# Altium schematic symbol library Driver_Motor.SchLib: 95 symbols (part 2 of 2)
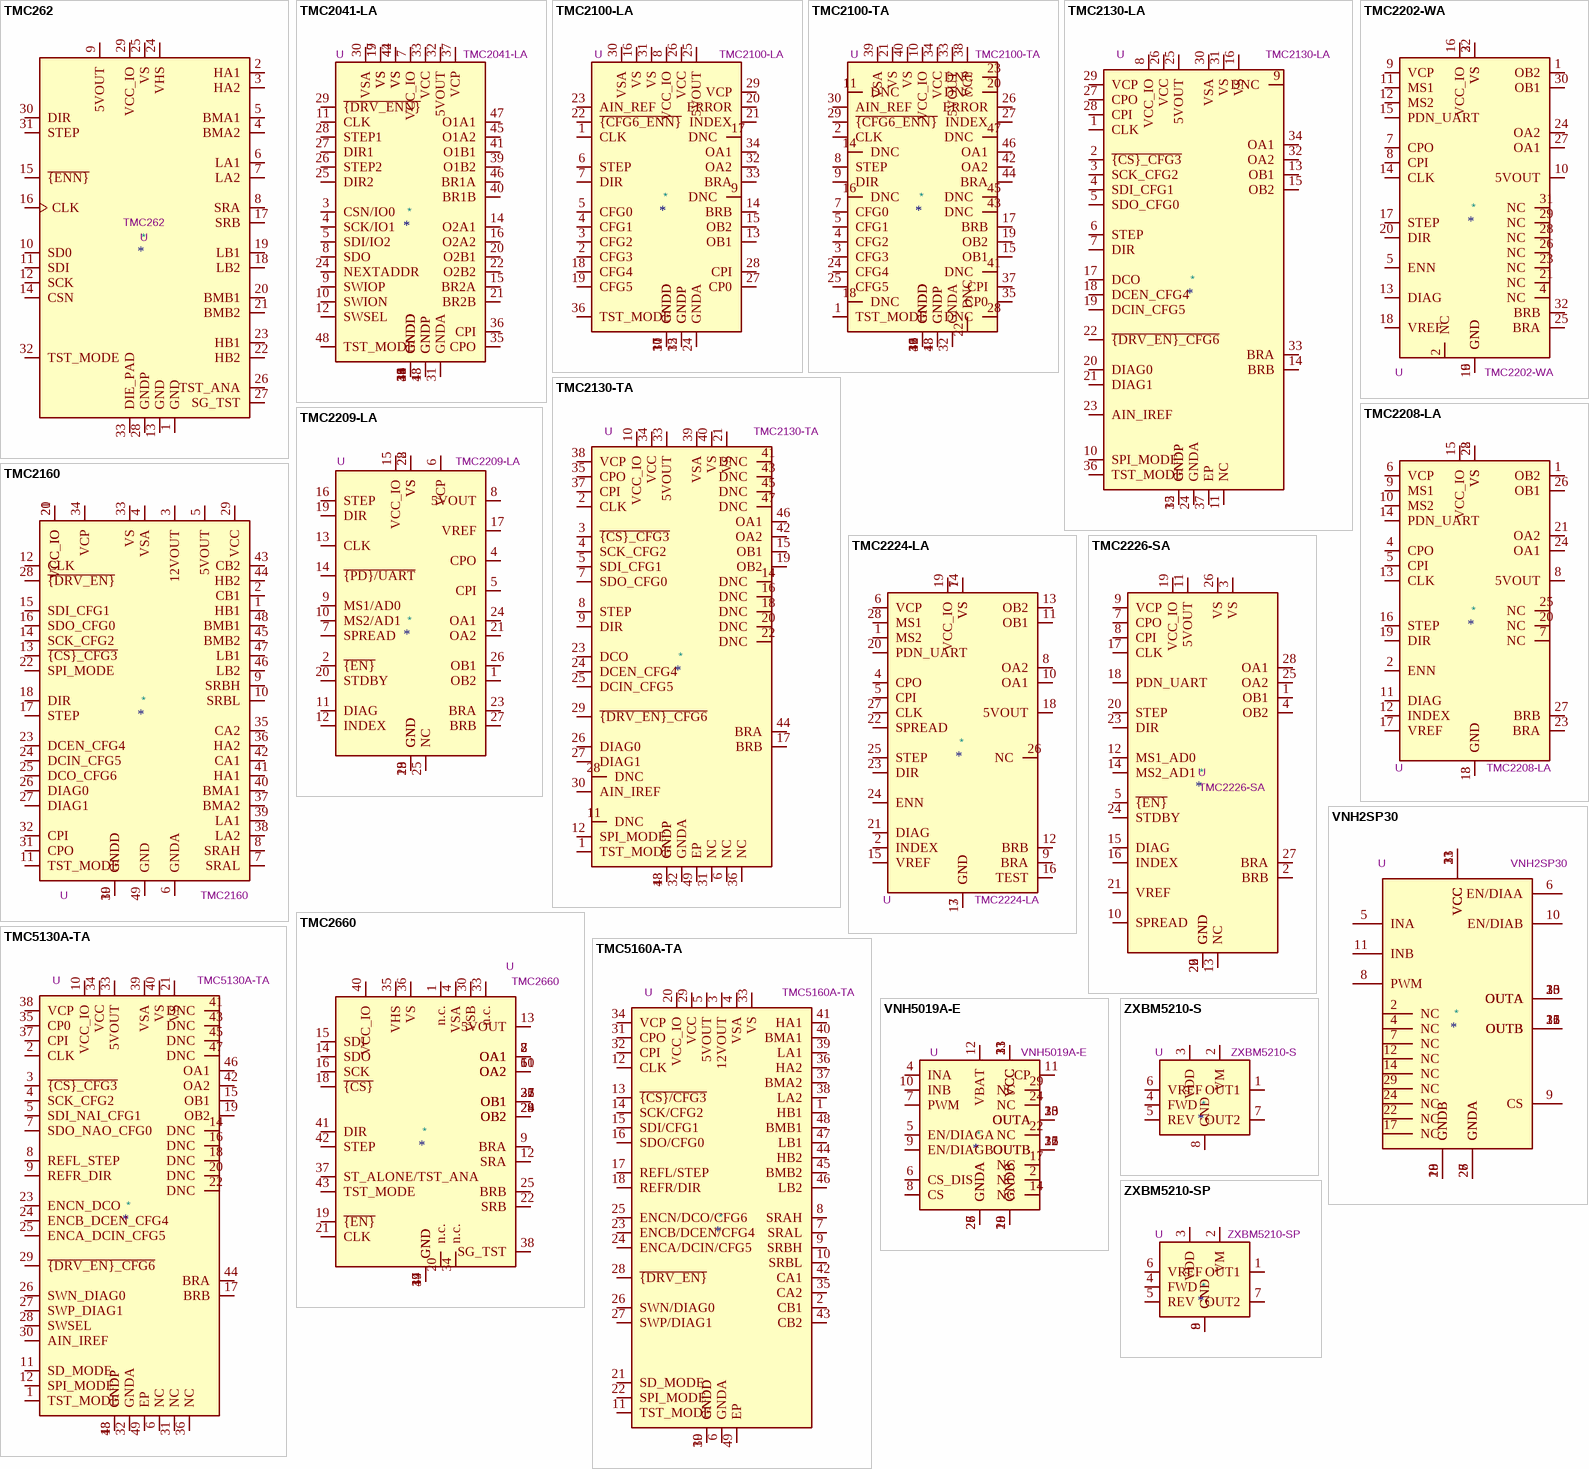
[diagram p4: symbols TMC262 to ZXBM5210-SP]

## TMC2130-LA
designator *  value TMC2130-LA  Reference: U
Driver for two-phase bipolar stepper motor, 2.0A, SPI, 4.75-46V, QFN-36; ki_keywords: stepper motor driver; ki_fp_filters: QFN*1EP*5x6mm*P0.5mm*; Footprint: Package_DFN_QFN:QFN-36-1EP_5x6mm_P0.5mm_EP3.6x4.1mm; Datasheet: http://www.trinamic.com/fileadmin/assets/Products/ICs_Documents/TMC2130_datasheet.pdf; Description_: Driver for two-phase bipolar stepper motor, 2.0A, SPI, 4.75-46V, QFN-36
pins: 1 CLK, 2 ~{{CS}_CFG3}, 3 SCK_CFG2, 4 SDI_CFG1, 5 SDO_CFG0, 6 STEP, 7 DIR, 8 VCC_IO, 9 DNC, 10 SPI_MODE, 11 NC, 12 GNDP, 13 OB1, 14 BRB, 15 OB2, 16 VS, 17 DCO, 18 DCEN_CFG4, 19 DCIN_CFG5, 20 DIAG0, 21 DIAG1, 22 ~{{DRV_EN}_CFG6}, 23 AIN_IREF, 24 GNDA, 25 5VOUT, 26 VCC, 27 CPO, 28 CPI, 29 VCP, 30 VSA, 31 VS, 32 OA2, 33 BRA, 34 OA1, 35 GNDP, 36 TST_MODE, 37 EP

## TMC2130-TA
designator *  value TMC2130-TA  Reference: U
Driver for two-phase bipolar stepper motor, 2.0A, SPI, 4.75-46V, TQFP-48; ki_keywords: stepper motor driver; ki_fp_filters: TQFP*1EP*7x7mm*P0.5mm*; Footprint: Package_QFP:TQFP-48-1EP_7x7mm_P0.5mm_EP5x5mm; Datasheet: http://www.trinamic.com/fileadmin/assets/Products/ICs_Documents/TMC2130_datasheet.pdf; Description_: Driver for two-phase bipolar stepper motor, 2.0A, SPI, 4.75-46V, TQFP-48
pins: 1 TST_MODE, 2 CLK, 3 ~{{CS}_CFG3}, 4 SCK_CFG2, 5 SDI_CFG1, 6 NC, 7 SDO_CFG0, 8 STEP, 9 DIR, 10 VCC_IO, 11 DNC, 12 SPI_MODE, 13 GNDP, 14 DNC, 15 OB1, 16 DNC, 17 BRB, 18 DNC, 19 OB2, 20 DNC, 21 VS, 22 DNC, 23 DCO, 24 DCEN_CFG4, 25 DCIN_CFG5, 26 DIAG0, 27 DIAG1, 28 DNC, 29 ~{{DRV_EN}_CFG6}, 30 AIN_IREF, 31 NC, 32 GNDA, 33 5VOUT, 34 VCC, 35 CPO, 36 NC, 37 CPI, 38 VCP, 39 VSA, 40 VS, 41 DNC, 42 OA2, 43 DNC, 44 BRA, 45 DNC, 46 OA1, 47 DNC, 48 GNDP, 49 EP

## TMC2160
designator *  value TMC2160  Reference: U
Standalone driver for two-phase bipolar stepper motor, 8-60V, external FETs, TQFP48; ki_keywords: Standalone driver stepper motor; ki_fp_filters: TQFP*1EP?7x7mm*P0.5mm*; Footprint: Package_QFP:TQFP-48-1EP_7x7mm_P0.5mm_EP5x5mm; Datasheet: https://www.trinamic.com/fileadmin/assets/Products/ICs_Documents/TMC2160A-datasheet_Rev1.06.pdf; Description_: Standalone driver for two-phase bipolar stepper motor, 8-60V, external FETs, TQFP48
pins: 1 HB1, 2 CB1, 3 12VOUT, 4 VSA, 5 5VOUT, 6 GNDA, 7 SRAL, 8 SRAH, 9 SRBH, 10 SRBL, 11 TST_MODE, 12 CLK, 13 ~{{CS}_CFG3}, 14 SCK_CFG2, 15 SDI_CFG1, 16 SDO_CFG0, 17 STEP, 18 DIR, 19 GNDD, 20 VCC_IO, 21 VCC_IO, 22 SPI_MODE, 23 DCEN_CFG4, 24 DCIN_CFG5, 25 DCO_CFG6, 26 DIAG0, 27 DIAG1, 28 ~{{DRV_EN}}, 29 VCC, 30 GNDD, 31 CPO, 32 CPI, 33 VS, 34 VCP, 35 CA2, 36 HA2, 37 BMA2, 38 LA2, 39 LA1, 40 BMA1, 41 HA1, 42 CA1, 43 CB2, 44 HB2, 45 BMB2, 46 LB2, 47 LB1, 48 BMB1, 49 GND

## TMC2202-WA
designator *  value TMC2202-WA  Reference: U
Standalone driver for two-phase bipolar stepper motor, 2A, 4.75… 36V, UART, internal FETs, QFN32; ki_keywords: Standalone driver stepper motor; ki_fp_filters: TQFN*1EP?5x5mm?P0.5mm*; Footprint: Package_DFN_QFN:TQFN-32-1EP_5x5mm_P0.5mm_EP3.4x3.4mm_ThermalVias; Datasheet: https://www.analog.com/media/en/technical-documentation/data-sheets/TMC2202_TMC2208_TMC2224_datasheet_rev1.13.pdf; Description_: Standalone driver for two-phase bipolar stepper motor, 2A, 4.75… 36V, UART, internal FETs, QFN32
pins: 1 OB2, 2 NC, 3 VS, 4 NC, 5 ENN, 6 GND, 7 CPO, 8 CPI, 9 VCP, 10 5VOUT, 11 MS1, 12 MS2, 13 DIAG, 14 CLK, 15 PDN_UART, 16 VCC_IO, 17 STEP, 18 VREF, 19 GND, 20 DIR, 21 NC, 22 VS, 23 NC, 24 OA2, 25 BRA, 26 NC, 27 OA1, 28 NC, 29 NC, 30 OB1, 31 NC, 32 BRB

## TMC2208-LA
designator *  value TMC2208-LA  Reference: U
Standalone driver for two-phase bipolar stepper motor, 2A, 4.75… 36V, UART, internal FETs, QFN28; ki_keywords: Standalone driver stepper motor; ki_fp_filters: TQFN*1EP?5x5mm?P0.5mm*; Footprint: Package_DFN_QFN:TQFN-32-1EP_5x5mm_P0.5mm_EP3.4x3.4mm_ThermalVias; Datasheet: https://www.analog.com/media/en/technical-documentation/data-sheets/TMC2202_TMC2208_TMC2224_datasheet_rev1.13.pdf; Description_: Standalone driver for two-phase bipolar stepper motor, 2A, 4.75… 36V, UART, internal FETs, QFN28
pins: 1 OB2, 2 ENN, 3 GND, 4 CPO, 5 CPI, 6 VCP, 7 NC, 8 5VOUT, 9 MS1, 10 MS2, 11 DIAG, 12 INDEX, 13 CLK, 14 PDN_UART, 15 VCC_IO, 16 STEP, 17 VREF, 18 GND, 19 DIR, 20 NC, 21 OA2, 22 VS, 23 BRA, 24 OA1, 25 NC, 26 OB1, 27 BRB, 28 VS

## TMC2209-LA
designator *  value TMC2209-LA  Reference: U
2-phase stepper motor driver, 256 µSteps, 2.8A peak, 2.0A RMS, VS = 4.75..29V, STEP/DIR and UART interface, VQFN-28; ki_keywords: ADI-Trinamic Analog-Devices; ki_fp_filters: *VQFN*5x5mm*P0.5mm*EP3.7*3.7*; Footprint: Package_DFN_QFN:VQFN-28-1EP_5x5mm_P0.5mm_EP3.7x3.7mm_ThermalVias; Datasheet: https://www.analog.com/media/en/technical-documentation/data-sheets/TMC2209_datasheet_rev1.09.pdf; Description_: 2-phase stepper motor driver, 256 µSteps, 2.8A peak, 2.0A RMS, VS = 4.75..29V, STEP/DIR and UART interface, VQFN-28
pins: 1 OB2, 2 ~{{EN}}, 3 GND, 4 CPO, 5 CPI, 6 VCP, 7 SPREAD, 8 5VOUT, 9 MS1/AD0, 10 MS2/AD1, 11 DIAG, 12 INDEX, 13 CLK, 14 ~{{PD}/UART}, 15 VCC_IO, 16 STEP, 17 VREF, 18 GND, 19 DIR, 20 STDBY, 21 OA2, 22 VS, 23 BRA, 24 OA1, 25 NC, 26 OB1, 27 BRB, 28 VS, 29 GND

## TMC2224-LA
designator *  value TMC2224-LA  Reference: U
Standalone driver for two-phase bipolar stepper motor, 2A, 4.75… 36V, UART, internal FETs, QFN28; ki_keywords: Standalone driver stepper motor; ki_fp_filters: TQFN*1EP?5x5mm?P0.5mm*; Footprint: Package_DFN_QFN:TQFN-32-1EP_5x5mm_P0.5mm_EP3.4x3.4mm_ThermalVias; Datasheet: https://www.analog.com/media/en/technical-documentation/data-sheets/TMC2202_TMC2208_TMC2224_datasheet_rev1.13.pdf; Description_: Standalone driver for two-phase bipolar stepper motor, 2A, 4.75… 36V, UART, internal FETs, QFN28
pins: 1 MS2, 2 INDEX, 3 GND, 4 CPO, 5 CPI, 6 VCP, 7 VS, 8 OA2, 9 BRA, 10 OA1, 11 OB1, 12 BRB, 13 OB2, 14 VS, 15 VREF, 16 TEST, 17 GND, 18 5VOUT, 19 VCC_IO, 20 PDN_UART, 21 DIAG, 22 SPREAD, 23 DIR, 24 ENN, 25 STEP, 26 NC, 27 CLK, 28 MS1

## TMC2226-SA
designator *  value TMC2226-SA  Reference: U
Power Driver For Stepper Motors, 2.0A, 4.75-29V, HTSSOP-28; ki_keywords: Standalone driver stepper motor; ki_fp_filters: HTSSOP*1EP*4.4x9.7mm*P0.65mm*; Footprint: Package_SO:HTSSOP-28-1EP_4.4x9.7mm_P0.65mm_EP2.75x6.2mm_ThermalVias; Datasheet: https://www.trinamic.com/fileadmin/assets/Products/ICs_Documents/TMC2226_datasheet_rev1.10.pdf; Description_: Power Driver For Stepper Motors, 2.0A, 4.75-29V, HTSSOP-28
pins: 1 OB1, 2 BRB, 3 VS, 4 OB2, 5 ~{{EN}}, 6 GND, 7 CPO, 8 CPI, 9 VCP, 10 SPREAD, 11 5VOUT, 12 MS1_AD0, 13 NC, 14 MS2_AD1, 15 DIAG, 16 INDEX, 17 CLK, 18 PDN_UART, 19 VCC_IO, 20 STEP, 21 VREF, 22 GND, 23 DIR, 24 STDBY, 25 OA2, 26 VS, 27 BRA, 28 OA1, 29 GND

## TMC2660
designator *  value TMC2660  Reference: U
Standalone driver for two-phase bipolar stepper motor, 0-30V, 2.4A, LQFP-44; ki_keywords: Standalone driver stepper motor; ki_fp_filters: *LQFP*10x10mm*P0.8mm*; Footprint: Package_QFP:LQFP-44_10x10mm_P0.8mm; Datasheet: https://www.trinamic.com/fileadmin/assets/Products/ICs_Documents/TMC2660_datasheet_Rev1.07.pdf; Description_: Standalone driver for two-phase bipolar stepper motor, 0-30V, 2.4A, LQFP-44
pins: 1 n.c., 2 OA1, 3 OA1, 4 VSA, 5 OA2, 6 OA2, 7 OA1, 8 OA1, 9 BRA, 10 OA2, 11 OA2, 12 SRA, 13 5VOUT, 14 SDO, 15 SDI, 16 SCK, 17 GND, 18 ~{{CS}}, 19 ~{{EN}}, 20 n.c., 21 CLK, 22 SRB, 23 OB2, 24 OB2, 25 BRB, 26 OB1, 27 OB1, 28 OB2, 29 OB2, 30 VSB, 31 OB1, 32 OB1, 33 n.c., 34 n.c., 35 VHS, 36 VS, 37 ST_ALONE/TST_ANA, 38 SG_TST, 39 GND, 40 VCC_IO, 41 DIR, 42 STEP, 43 TST_MODE, 44 GND

## TMC5130A-TA
designator *  value TMC5130A-TA  Reference: U
Power Driver For Stepper Motors, 2.0A, 4.75-46V, TQFP-48; ki_keywords: Standalone driver stepper motor; ki_fp_filters: TQFP*1EP*7x7mm*P0.5mm*; Footprint: Package_QFP:TQFP-48-1EP_7x7mm_P0.5mm_EP5x5mm_ThermalVias; Datasheet: https://www.trinamic.com/fileadmin/assets/Products/ICs_Documents/TMC5130_datasheet_Rev1.17.pdf; Description_: Power Driver For Stepper Motors, 2.0A, 4.75-46V, TQFP-48
pins: 1 TST_MODE, 2 CLK, 3 ~{{CS}_CFG3}, 4 SCK_CFG2, 5 SDI_NAI_CFG1, 6 NC, 7 SDO_NAO_CFG0, 8 REFL_STEP, 9 REFR_DIR, 10 VCC_IO, 11 SD_MODE, 12 SPI_MODE, 13 GNDP, 14 DNC, 15 OB1, 16 DNC, 17 BRB, 18 DNC, 19 OB2, 20 DNC, 21 VS, 22 DNC, 23 ENCN_DCO, 24 ENCB_DCEN_CFG4, 25 ENCA_DCIN_CFG5, 26 SWN_DIAG0, 27 SWP_DIAG1, 28 SWSEL, 29 ~{{DRV_EN}_CFG6}, 30 AIN_IREF, 31 NC, 32 GNDA, 33 5VOUT, 34 VCC, 35 CP0, 36 NC, 37 CPI, 38 VCP, 39 VSA, 40 VS, 41 DNC, 42 OA2, 43 DNC, 44 BRA, 45 DNC, 46 OA1, 47 DNC, 48 GNDP, 49 EP

## TMC5160A-TA
designator *  value TMC5160A-TA  Reference: U
20A Driver for two-phase bipolar stepper motor, SPI, UART, TQFP-48; ki_keywords: stepper motor driver trinamic; ki_fp_filters: TQFP*1EP*7x7mm*P0.5mm*; Footprint: Package_QFP:TQFP-48-1EP_7x7mm_P0.5mm_EP5x5mm_ThermalVias; Datasheet: https://www.trinamic.com/fileadmin/assets/Products/ICs_Documents/TMC5160A_Datasheet_Rev1.14.pdf; Description_: 20A Driver for two-phase bipolar stepper motor, SPI, UART, TQFP-48
pins: 1 HB1, 2 CB1, 3 12VOUT, 4 VSA, 5 5VOUT, 6 GNDA, 7 SRAL, 8 SRAH, 9 SRBH, 10 SRBL, 11 TST_MODE, 12 CLK, 13 ~{{CS}/CFG3}, 14 SCK/CFG2, 15 SDI/CFG1, 16 SDO/CFG0, 17 REFL/STEP, 18 REFR/DIR, 19 GNDD, 20 VCC_IO, 21 SD_MODE, 22 SPI_MODE, 23 ENCB/DCEN/CFG4, 24 ENCA/DCIN/CFG5, 25 ENCN/DCO/CFG6, 26 SWN/DIAG0, 27 SWP/DIAG1, 28 ~{{DRV_EN}}, 29 VCC, 30 GNDD, 31 CPO, 32 CPI, 33 VS, 34 VCP, 35 CA2, 36 HA2, 37 BMA2, 38 LA2, 39 LA1, 40 BMA1, 41 HA1, 42 CA1, 43 CB2, 44 HB2, 45 BMB2, 46 LB2, 47 LB1, 48 BMB1, 49 EP

## VNH2SP30
designator *  value VNH2SP30  Reference: U
Full Bridge Motor Driver, 41V, 30A, -40 to 150C; ki_keywords: full-bridge h-bridge; ki_fp_filters: ST*MultiPowerSO*; Footprint: Package_SO:ST_MultiPowerSO-30; Datasheet: http://www.st.com/content/ccc/resource/technical/document/datasheet/group2/66/b8/f5/2c/9a/66/41/c7/CD00043711/files/CD00043711.pdf/jcr:content/translations/en.CD00043711.pdf; Description_: Full Bridge Motor Driver, 41V, 30A, -40 to 150C
pins: 1 OUTA, 2 NC, 3 VCC, 4 NC, 5 INA, 6 EN/DIAA, 7 NC, 8 PWM, 9 CS, 10 EN/DIAB, 11 INB, 12 NC, 13 VCC, 14 NC, 15 OUTB, 16 OUTB, 17 NC, 18 GNDB, 19 GNDB, 20 GNDB, 21 OUTB, 22 NC, 23 VCC, 24 NC, 25 OUTA, 26 GNDA, 27 GNDA, 28 GNDA, 29 NC, 30 OUTA, 31 VCC, 32 OUTB, 33 OUTA

## VNH5019A-E
designator *  value VNH5019A-E  Reference: U
Full Bridge Motor Driver, 41V, 30A, -40 to 150C, MultiPowerSO-30; ki_keywords: full-bridge h-bridge; ki_fp_filters: ST*MultiPowerSO*; Footprint: Package_SO:ST_MultiPowerSO-30; Datasheet: https://www.st.com/resource/en/datasheet/vnh5019a-e.pdf; Description_: Full Bridge Motor Driver, 41V, 30A, -40 to 150C, MultiPowerSO-30
pins: 1 OUTA, 2 NC, 3 VCC, 4 INA, 5 EN/DIAGA, 6 CS_DIS, 7 PWM, 8 CS, 9 EN/DIAGB, 10 INB, 11 CP, 12 VBAT, 13 VCC, 14 NC, 15 OUTB, 16 OUTB, 17 NC, 18 GNDB, 19 GNDB, 20 GNDB, 21 OUTB, 22 NC, 23 VCC, 24 NC, 25 OUTA, 26 GNDA, 27 GNDA, 28 GNDA, 29 NC, 30 OUTA, 31 VCC, 32 OUTB, 33 OUTA

## ZXBM5210-S
designator *  value ZXBM5210-S  Reference: U
Reversible DC motor drive with speed control, 3-18V, 0.85A, SOIC-8; ki_keywords: H-bridge, motor driver, PWM, single coil; ki_fp_filters: SOIC*3.9x4.9mm*P1.27mm*; Footprint: Package_SO:SOIC-8_3.9x4.9mm_P1.27mm; Datasheet: https://www.diodes.com/assets/Datasheets/ZXBM5210.pdf; Description_: Reversible DC motor drive with speed control, 3-18V, 0.85A, SOIC-8
pins: 1 OUT1, 2 VM, 3 VDD, 4 FWD, 5 REV, 6 VREF, 7 OUT2, 8 GND

## ZXBM5210-SP
designator *  value ZXBM5210-SP  Reference: U
Reversible DC motor drive with speed control, 3-18V, 0.85A, SOIC-8EP; ki_keywords: H-bridge, motor driver, PWM, single coil; ki_fp_filters: Diodes*SO*EP*; Footprint: Package_SO:Diodes_SO-8EP; Datasheet: https://www.diodes.com/assets/Datasheets/ZXBM5210.pdf; Description_: Reversible DC motor drive with speed control, 3-18V, 0.85A, SOIC-8EP
pins: 1 OUT1, 2 VM, 3 VDD, 4 FWD, 5 REV, 6 VREF, 7 OUT2, 8 GND, 9 GND